# Altium schematic symbol library LM3409HVMY.SchLib: 1 symbol
Pins are listed as number, name and electrical type; pins without a type are passive.

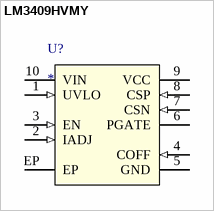
[diagram p0: symbol LM3409HVMY]

## LM3409HVMY
designator U?
PFET Buck Controller for High-Power LED Drivers
pins: 1 UVLO (in), 2 IADJ (in), 3 EN (in), 4 COFF (in), 5 GND (power), 6 PGATE, 7 CSN (in), 8 CSP (in), 9 VCC (power), 10 VIN (power), EP (power)